# Altium footprint library ACDC_Switcher.PcbLib: 1 footprints
Each footprint in its own frame and in the unit in brackets; x right, y up, seen from the top. Pads: shape width x height; smd on the part's side, far side on the other; paste and mask are expansions set on the pad; w line width, h text height; cw(c..) or ccw(c..) is an arc to the next point about the centre after c.
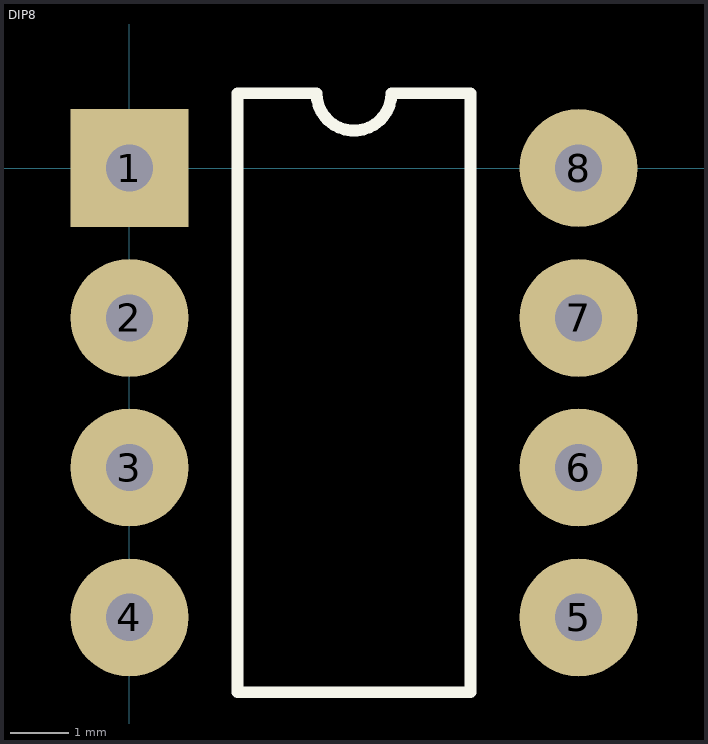
[diagram p0: the footprint, top view; thin cyan lines are the x and y axes]

## DIP8 [mm]
pads (8):
  rect 2x2 hole 0.8: 1(0,0)
  round 2 hole 0.8: 2(0,-2.54) 3(0,-5.08) 4(0,-7.62) 5(7.62,-7.62) 6(7.62,-5.08) 7(7.62,-2.54) 8(7.62,0)
Top Overlay:
  lines w0.2: 1.835,-8.89 5.785,-8.89 5.785,1.27 4.445,1.27 cw(c3.81,1.27) 3.175,1.27 1.835,1.27 1.835,-8.89
3D body "Socket_DIP8.stp": height 4.75, standoff -3.45, extent -1.19,-8.91 8.81,1.212
3D body "DIP8.STEP": height 7.05, standoff 1.2, extent -0.127,-8.41 7.743,0.79